# Altium footprint library Wireless_Charger-X01.PcbLib: 7 footprints
Each footprint in its own frame and in the unit in brackets; x right, y up, seen from the top. Pads: shape width x height; smd on the part's side, far side on the other; paste and mask are expansions set on the pad; w line width, h text height; cw(c..) or ccw(c..) is an arc to the next point about the centre after c.
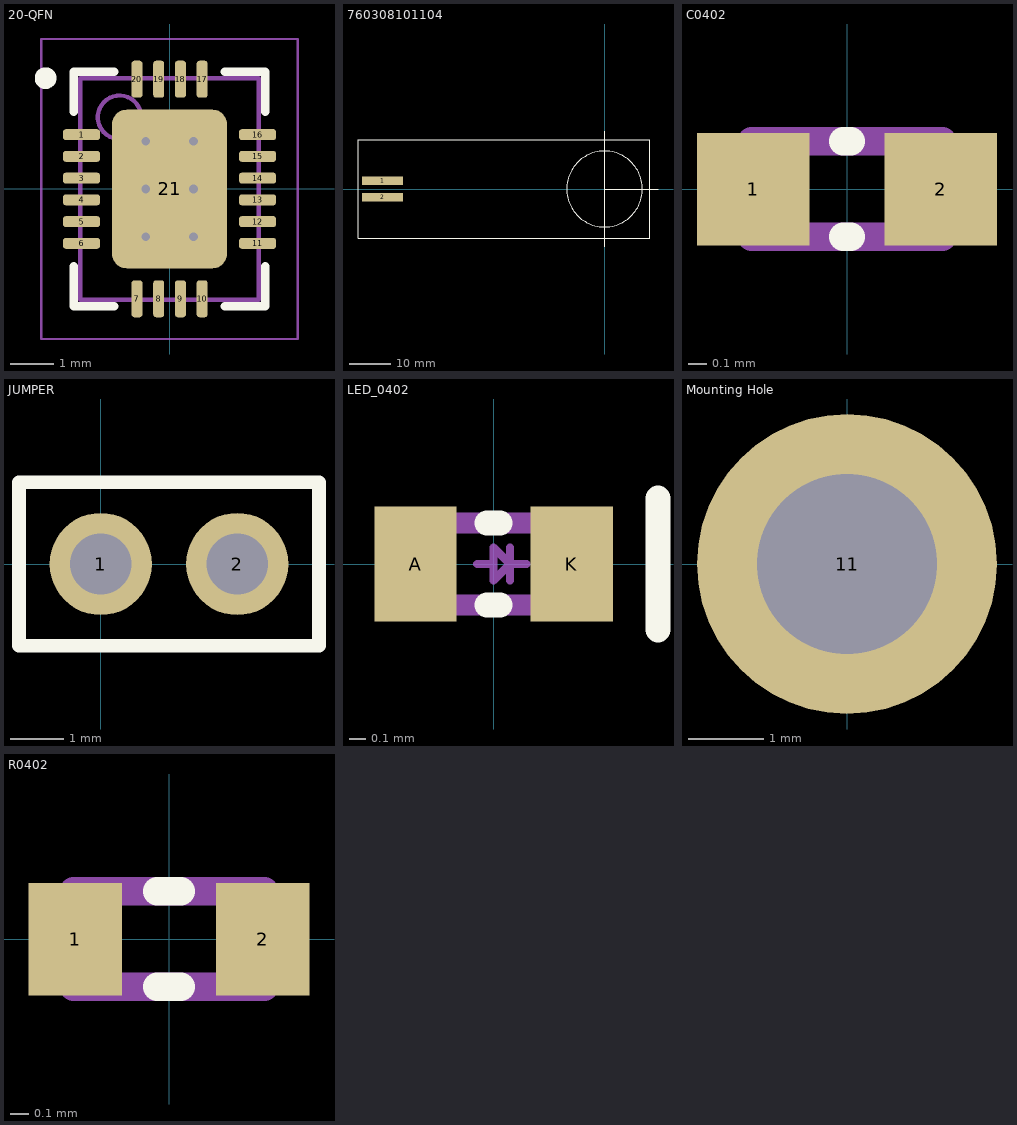
[diagram p0: the footprints below, top view; thin cyan lines are the x and y axes]

## 20-QFN [mm] "QFN, 20-Leads, Body 5.1x4.1mm, Pitch 0.5mm, Thermal Pad 2.65x3.65mm, IPC Low Density"
height 0.8
pads (21):
  rrect50% 0.85x0.25 smd: 1(-2.025,1.25) 2(-2.025,0.75) 3(-2.025,0.25) 4(-2.025,-0.25) 5(-2.025,-0.75) 6(-2.025,-1.25) 11(2.025,-1.25) 12(2.025,-0.75) 13(2.025,-0.25) 14(2.025,0.25) 15(2.025,0.75) 16(2.025,1.25)
  rrect50% 0.25x0.85 smd: 7(-0.75,-2.525) 8(-0.25,-2.525) 9(0.25,-2.525) 10(0.75,-2.525) 17(0.75,2.525) 18(0.25,2.525) 19(-0.25,2.525) 20(-0.75,2.525)
  rrect25% 2.65x3.65 smd: 21(0,0)
via 0.55,-1.1 diameter 0.5 hole 0.2
via -0.55,-1.1 diameter 0.5 hole 0.2
via 0.55,0 diameter 0.5 hole 0.2
via -0.55,0 diameter 0.5 hole 0.2
via 0.55,1.1 diameter 0.5 hole 0.2
via -0.55,1.1 diameter 0.5 hole 0.2
Top Overlay:
  circle w0.25: c-2.85,2.55 r0.125
  lines w0.2: -2.2,-1.775 -2.2,-2.7 -1.275,-2.7 ; -2.2,1.775 -2.2,2.7 -1.275,2.7 ; 1.275,-2.7 2.2,-2.7 2.2,-1.775 ; 1.275,2.7 2.2,2.7 2.2,1.775
Mechanical 13:
  circle w0.1: c-1.15,1.65 r0.5
  lines w0.1: -2.05,-2.55 2.05,-2.55 2.05,2.55 -2.05,2.55 -2.05,-2.55
Mechanical 15:
  lines w0.05: -2.95,-3.45 2.95,-3.45 2.95,3.45 -2.95,3.45 -2.95,-3.45
  lines w0.1: -0.5,0 0.5,0 ; 0,-0.5 0,0.5
3D body: height 0.8, standoff 0, extent -2.05,-2.55 2.05,2.55

## 760308101104 [mm] "TX Transmitter Coil"
pads (2):
  rect 10x2 smd: 1(-54,2) 2(-54,-2)
Top Overlay:
  circle w0.254: c0,0 r9.22
  lines w0.254: 0,-14 0,0 ; 0,14 0,0 ; 13,0 0,0 ; -60,-12 11,-12 11,12 -60,12 -60,-12
3D body "760308101104.stp": height 3.06, standoff 1, extent -59.25,-10.247 10.25,10.247

## C0402 [mm]
pads (2):
  rect 0.6x0.6 smd: 1(-0.5,0) 2(0.5,0)
Top Overlay:
  lines w0.152: -0.02,-0.254 0.02,-0.254 ; -0.02,0.254 0.02,0.254
Mechanical 3:
  lines w0.152: -0.508,-0.254 0.508,-0.254 0.508,0.254 -0.508,0.254 -0.508,-0.254
3D body "C0402.stp": height 0.55, standoff 0, extent -0.5,-0.25 0.5,0.25

## JUMPER [mil]
pads (2):
  round 75 hole 45: 1(0,0) 2(100,0)
Top Overlay:
  lines w10: -60,-60 -60,60 160,60 160,-60 -60,-60
3D body "Jumper Closed.stp": height 343.31, standoff -120.08, extent -49.99,-50.09 150.01,49.91

## LED_0402 [mm] "0402 w/ LED mark"
pads (2):
  rect 0.5x0.7 smd: A(-0.475,0) K(0.475,0)
Top Overlay:
  lines w0.152: -0.04,-0.25 0.04,-0.25 ; -0.04,0.25 0.04,0.25 ; 1,-0.4 1,0.4
Mechanical 3:
  lines w0.05: -0.1,0 0,0 ; 0.1,-0.1 0.1,0.1 ; 0.2,0 0.1,0 ; 0.1,0 0,0.1 0,-0.1 0.1,0
  lines w0.127: -0.5,-0.25 0.5,-0.25 0.5,0.25 -0.5,0.25 -0.5,-0.25
3D body "LED0402.stp": height 0.35, standoff 0, extent -0.5,-0.25 0.5,0.25

## Mounting Hole [mm] "M2 or 2-56 Mounting Hole"
pads (1):
  round 4 hole 2.4: 11(0,0)
3D body "91115A956.STEP": height -0.77, standoff -18.23, extent -1.587,-1.833 1.588,1.833
3D body "92185A077.STEP": height 2.28, standoff -6.25, extent -1.778,-1.778 1.778,1.778

## R0402 [mm]
pads (2):
  rect 0.5x0.6 smd: 1(-0.5,0) 2(0.5,0)
Top Overlay:
  lines w0.152: -0.064,-0.254 0.064,-0.254 ; -0.064,0.254 0.064,0.254
Mechanical 3:
  lines w0.152: -0.508,-0.254 0.508,-0.254 0.508,0.254 -0.508,0.254 -0.508,-0.254
3D body "R0402.stp": height 0.35, standoff 0, extent -0.5,-0.25 0.5,0.25